# Altium schematic symbol library zener.SchLib: 24 symbols
Pins are listed as number, name and electrical type; pins without a type are passive.

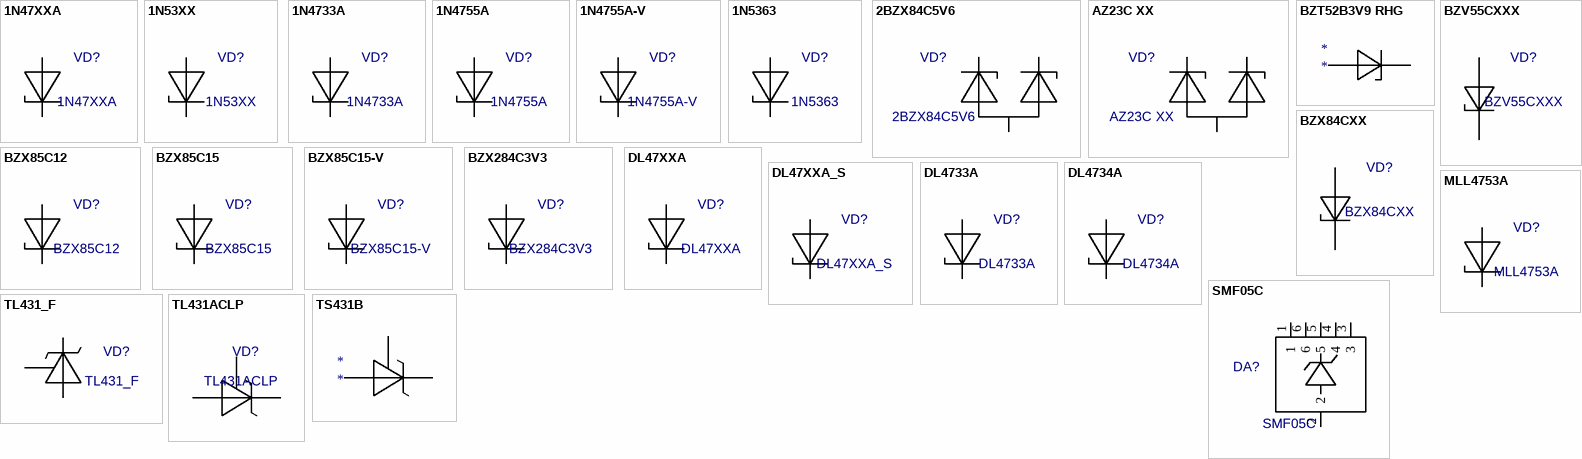
[diagram p0: symbols 1N47XXA to TS431B]

## 1N47XXA
designator VD?
Value: {Value}
footprint DO-41
pins: 1 A, 2 K

## 1N53XX
designator VD?
Value: {Value}
footprint DO-201AD_1.5KE
pins: 1, 2

## 1N4733A
designator VD?
Value: {Value}
footprint DO-41_1
pins: 1 A, 2 K

## 1N4755A
designator VD?
Value: {Value}
footprint DO-41
pins: 1 A, 2 K

## 1N4755A-V
designator VD?
Value: {Value}
footprint DO-41-V
pins: 1 A, 2 K

## 1N5363
designator VD?
Value: {Value}
footprint CASE17-02
pins: 1, 2

## 2BZX84C5V6
designator VD?
Value: *
footprint SOT-23_2BZX84C5V6(Primary)
pins: 1 2, 2, 3

## AZ23C XX
designator VD?
Value: *
footprint SOT-23_AZ23C XX(Primary)
pins: 1 2, 2, 3

## BZT52B3V9 RHG
designator *
footprint SOD-323
pins: 1 A, 2 K

## BZV55CXXX
designator VD?
Value: {Value}
footprint SOD-80C
pins: 1 A, 2 K

## BZX84CXX
designator VD?
Value: {Value}
footprint SOT-23(ANK)
pins: 1 A, 2 K, 3 hidden

## BZX85C12
designator VD?
Value: {Value}
footprint DO-35
pins: 1 A, 2 K

## BZX85C15
designator VD?
Value: {Value}
footprint DO-35
pins: 1 A, 2 K

## BZX85C15-V
designator VD?
Value: {Value}
footprint DO-35-V
pins: 1 A, 2 K

## BZX284C3V3
designator VD?
Value: {Value}
footprint SOD110
pins: 1 K, 2 A

## DL47XXA
designator VD?
Value: {Value}
footprint DL-41
pins: 1 A, 2 K

## DL47XXA_S
designator VD?
Value: {Value}
footprint DL-41_TRUE
pins: 1 A, 2 K

## DL4733A
designator VD?
Value: {Value}
footprint DL-41
pins: 1 A, 2 K

## DL4734A
designator VD?
Value: {Value}
footprint DL-41
pins: 1 A, 2 K

## MLL4753A
designator VD?
Value: {Value}
footprint DO-213
pins: 1 A, 2 K

## SMF05C
designator DA?
Value: *
footprint SOT-363
pins: 1, 2, 3, 4, 5, 6

## TL431_F
designator VD?
Value: *
footprint SOT-23
pins: 1 Ref, 2 C, 3 A

## TL431ACLP
designator VD?
Value: *
footprint TO-92AW
pins: 1 Ref, 2 A, 3 K

## TS431B
designator *
footprint SOT23-5
pins: 3 K, 4 Ref, 5 A